# Altium schematic symbol library 0201Resistor_Yageo.SchLib: 2 symbols
Pins are listed as number, name and electrical type; pins without a type are passive.

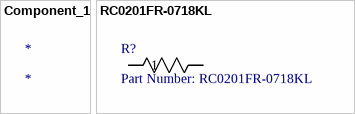
[diagram p0: symbols Component_1 to RC0201FR-0718KL]

## Component_1
designator *

## RC0201FR-0718KL
designator R?, comment Part Number: RC0201FR-0718KL
No Description Available; Vendor: Yageo; Built_By: EMA_Anthony; Copyright: Copyright (C) 2018 Accelerated Designs. All rights reserved; Manufacturer_Part_Number: RC0201FR-0718KL; RefDes: RefDes; Type: DEV; Value: Value
footprint RES_RC0201_P6XP3
pins: 1, 2